# Altium schematic symbol library X_1_PIN.SchLib: 1 symbol
Pins are listed as number, name and electrical type; pins without a type are passive.

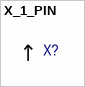
[diagram p0: symbol X_1_PIN]

## X_1_PIN
designator X?  (value not drawn)
pins: 1